# Altium footprint library 2021-07-09_12-34-11.PcbLib: 3 footprints
Each footprint in its own frame and in the unit in brackets; x right, y up, seen from the top. Pads: shape width x height; smd on the part's side, far side on the other; paste and mask are expansions set on the pad; w line width, h text height; cw(c..) or ccw(c..) is an arc to the next point about the centre after c.
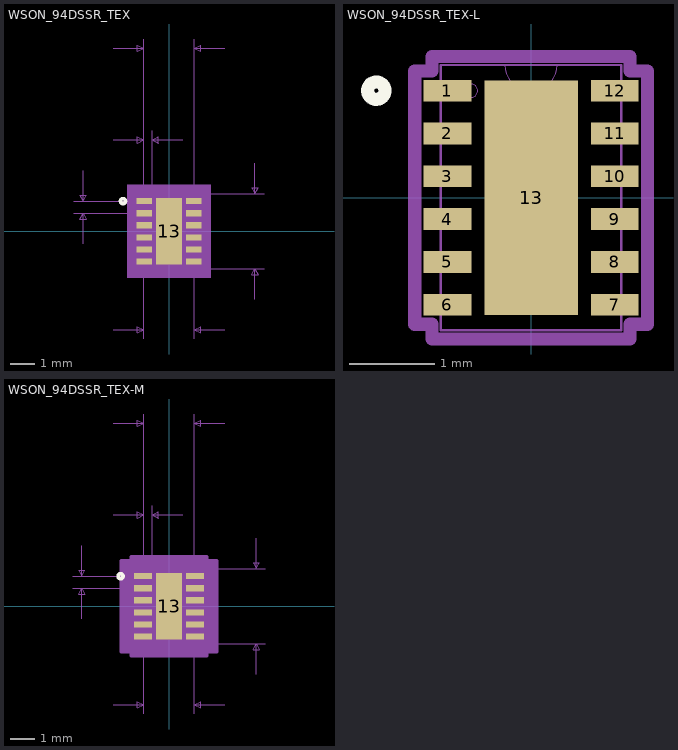
[diagram p0: the footprints below, top view; thin cyan lines are the x and y axes]

## WSON_94DSSR_TEX [mil]
pads (13):
  rect 26x10 smd paste+0 mask+0: 1(-40.5,49.23) 2(-40.5,29.54) 3(-40.5,9.85) 4(-40.5,-9.85) 5(-40.5,-29.54) 6(-40.5,-49.23) 7(40.5,-49.23) 8(40.5,-29.54) 9(40.5,-9.85) 10(40.5,9.85) 11(40.5,29.54) 12(40.5,49.23)
  rect 43x108 smd paste+0 mask+0: 13(0,0)
Top Overlay:
  circle w6: c-75.19,49.23 r4
Top Paste:
  region: 17.56,-3.94 -17.56,-3.94 -17.56,-50.06 17.56,-50.06
  region: 17.56,50.06 -17.56,50.06 -17.56,3.94 17.56,3.94
Mechanical 5:
  region: 68.5,-76 -68.5,-76 -68.5,76 68.5,76
Mechanical 7:
  lines w1: -155.5,29.54 -40.5,29.54 ; -155.5,49.23 -40.5,49.23 ; -140.5,-20.46 -140.5,29.54 ; -140.5,99.22 -140.5,49.23 ; -91.5,-161 -41.5,-161 ; -91.5,149.22 -41.5,149.22 ; -91.5,299.23 -41.5,299.23 ; -41.5,-176 -41.5,-61 ; -41.5,164.22 -41.5,49.23 -41.5,314.23 ; -27.5,49.23 -27.5,164.22 ; 22.5,149.22 -27.5,149.22 ; 41.5,-176 41.5,-61 155.5,-61 ; 41.5,49.23 41.5,314.23 ; 41.5,61 155.5,61 ; 91.5,-161 41.5,-161 ; 91.5,299.23 41.5,299.23 ; 140.5,-111 140.5,-61 ; 140.5,111 140.5,61 ; -140.5,29.54 -135.5,19.54 -145.5,19.54 -140.5,29.54 ; -140.5,49.23 -135.5,59.23 -145.5,59.23 -140.5,49.23 ; -41.5,-161 -51.5,-166 -51.5,-156 -41.5,-161 ; -41.5,149.22 -51.5,144.22 -51.5,154.22 -41.5,149.22 ; -41.5,299.23 -51.5,294.23 -51.5,304.23 -41.5,299.23 ; -27.5,149.22 -17.5,144.22 -17.5,154.22 -27.5,149.22 ; 41.5,-161 51.5,-166 51.5,-156 41.5,-161 ; 41.5,299.23 51.5,294.23 51.5,304.23 41.5,299.23 ; 140.5,-61 145.5,-71 135.5,-71 140.5,-61 ; 140.5,61 145.5,71 135.5,71 140.5,61
  text "0.083in/2.108mm" at -93.75,-206 h25
  text "0.122in/3.099mm" at 160.5,-12.5 h25
  text "0.02in/0.5mm" at -310.5,26.88 h25
  text "0.014in/0.356mm" at -128.25,169.22 h25
  text "0.083in/2.108mm" at -93.75,319.23 h25
  text "Alt 2 Padstyle: OX90Y60D30P" at -337.5,-671 h50
  text "Alt 1 Padstyle: OX60Y90D30P" at -337.5,-611 h50
  text "Heat Tab Padstyle: RX43Y108D0T" at -375,-491 h50
  text "Default Padstyle: RX26Y10D0T" at -350,-431 h50
Mechanical 13:
  circle w0: c-27.5,49.23 r3
  lines w0: -12,61 ccw(c0,61) 12,61
  lines w1: -41.5,-61 -41.5,61 41.5,61 41.5,-61 -41.5,-61
Mechanical 15:
  region: -51.5,-64.22 -63.5,-64.22 -63.5,64.22 -51.5,64.22 -51.5,71 51.5,71 51.5,64.22 63.5,64.22 63.5,-64.22 51.5,-64.22 51.5,-71 -51.5,-71
  lines w6: -63.5,-64.22 -51.5,-64.22 -51.5,-71 51.5,-71 51.5,-64.22 63.5,-64.22 63.5,64.22 51.5,64.22 51.5,71 -51.5,71 -51.5,64.22 -63.5,64.22 -63.5,-64.22
3D body: height 10, standoff 0, extent 0,0 10,10

## WSON_94DSSR_TEX-L [mil]
pads (13):
  rect 22x10 smd paste+0 mask+0: 1(-38.5,49.23) 2(-38.5,29.54) 3(-38.5,9.85) 4(-38.5,-9.85) 5(-38.5,-29.54) 6(-38.5,-49.23) 7(38.5,-49.23) 8(38.5,-29.54) 9(38.5,-9.85) 10(38.5,9.85) 11(38.5,29.54) 12(38.5,49.23)
  rect 43x108 smd paste+0 mask+0: 13(0,0)
Top Overlay:
  circle w6: c-71.19,49.23 r4
Top Paste:
  region: 17.56,-3.94 -17.56,-3.94 -17.56,-50.06 17.56,-50.06
  region: 17.56,50.06 -17.56,50.06 -17.56,3.94 17.56,3.94
Mechanical 13:
  circle w0: c-27.5,49.23 r3
  lines w0: -12,61 ccw(c0,61) 12,61
  lines w1: -41.5,-61 -41.5,61 41.5,61 41.5,-61 -41.5,-61
Mechanical 15:
  lines w6: -53.5,-58.23 -45.5,-58.23 -45.5,-65 45.5,-65 45.5,-58.23 53.5,-58.23 53.5,58.23 45.5,58.23 45.5,65 -45.5,65 -45.5,58.23 -53.5,58.23 -53.5,-58.23
3D body "WSON_94DSSR_TEX.step": height 32.09, standoff 0, extent -41.5,-60.99 41.49,60.98
3D body: height 10, standoff 0, extent 0,0 10,10

## WSON_94DSSR_TEX-M [mil]
pads (13):
  rect 30x10 smd paste+0 mask+0: 1(-42.5,49.23) 2(-42.5,29.54) 3(-42.5,9.85) 4(-42.5,-9.85) 5(-42.5,-29.54) 6(-42.5,-49.23) 7(42.5,-49.23) 8(42.5,-29.54) 9(42.5,-9.85) 10(42.5,9.85) 11(42.5,29.54) 12(42.5,49.23)
  rect 43x108 smd paste+0 mask+0: 13(0,0)
Top Overlay:
  circle w6: c-79.19,49.23 r4
Top Paste:
  region: 17.56,-3.94 -17.56,-3.94 -17.56,-50.06 17.56,-50.06
  region: 17.56,50.06 -17.56,50.06 -17.56,3.94 17.56,3.94
Mechanical 5:
  region: 72.5,-76 -72.5,-76 -72.5,76 72.5,76
Mechanical 7:
  lines w1: -157.5,29.54 -42.5,29.54 ; -157.5,49.23 -42.5,49.23 ; -142.5,-20.46 -142.5,29.54 ; -142.5,99.22 -142.5,49.23 ; -91.5,-161 -41.5,-161 ; -91.5,149.22 -41.5,149.22 ; -91.5,299.23 -41.5,299.23 ; -41.5,-176 -41.5,-61 ; -41.5,164.22 -41.5,49.23 -41.5,314.23 ; -27.5,49.23 -27.5,164.22 ; 22.5,149.22 -27.5,149.22 ; 41.5,-176 41.5,-61 157.5,-61 ; 41.5,49.23 41.5,314.23 ; 41.5,61 157.5,61 ; 91.5,-161 41.5,-161 ; 91.5,299.23 41.5,299.23 ; 142.5,-111 142.5,-61 ; 142.5,111 142.5,61 ; -142.5,29.54 -137.5,19.54 -147.5,19.54 -142.5,29.54 ; -142.5,49.23 -137.5,59.23 -147.5,59.23 -142.5,49.23 ; -41.5,-161 -51.5,-166 -51.5,-156 -41.5,-161 ; -41.5,149.22 -51.5,144.22 -51.5,154.22 -41.5,149.22 ; -41.5,299.23 -51.5,294.23 -51.5,304.23 -41.5,299.23 ; -27.5,149.22 -17.5,144.22 -17.5,154.22 -27.5,149.22 ; 41.5,-161 51.5,-166 51.5,-156 41.5,-161 ; 41.5,299.23 51.5,294.23 51.5,304.23 41.5,299.23 ; 142.5,-61 147.5,-71 137.5,-71 142.5,-61 ; 142.5,61 147.5,71 137.5,71 142.5,61
  text "0.083in/2.108mm" at -93.75,-206 h25
  text "0.122in/3.099mm" at 162.5,-12.5 h25
  text "0.02in/0.5mm" at -312.5,26.88 h25
  text "0.014in/0.356mm" at -128.25,169.22 h25
  text "0.083in/2.108mm" at -93.75,319.23 h25
  text "Alt 2 Padstyle: OX90Y60D30P" at -337.5,-671 h50
  text "Alt 1 Padstyle: OX60Y90D30P" at -337.5,-611 h50
  text "Heat Tab Padstyle: RX43Y108D0T" at -375,-491 h50
  text "Default Padstyle: RX30Y10D0T" at -350,-431 h50
Mechanical 13:
  circle w0: c-27.5,49.23 r3
  lines w0: -12,61 ccw(c0,61) 12,61
  lines w1: -41.5,-61 -41.5,61 41.5,61 41.5,-61 -41.5,-61
Mechanical 15:
  region: -61.5,-74.22 -77.5,-74.22 -77.5,74.22 -61.5,74.22 -61.5,81 61.5,81 61.5,74.22 77.5,74.22 77.5,-74.22 61.5,-74.22 61.5,-81 -61.5,-81
  lines w6: -77.5,-74.22 -61.5,-74.22 -61.5,-81 61.5,-81 61.5,-74.22 77.5,-74.22 77.5,74.22 61.5,74.22 61.5,81 -61.5,81 -61.5,74.22 -77.5,74.22 -77.5,-74.22
3D body: height 10, standoff 0, extent 0,0 10,10